# Altium footprint library con-molex-spox.PCBLIB: 1 footprints
Each footprint in its own frame and in the unit in brackets; x right, y up, seen from the top. Pads: shape width x height; smd on the part's side, far side on the other; paste and mask are expansions set on the pad; w line width, h text height; cw(c..) or ccw(c..) is an arc to the next point about the centre after c.
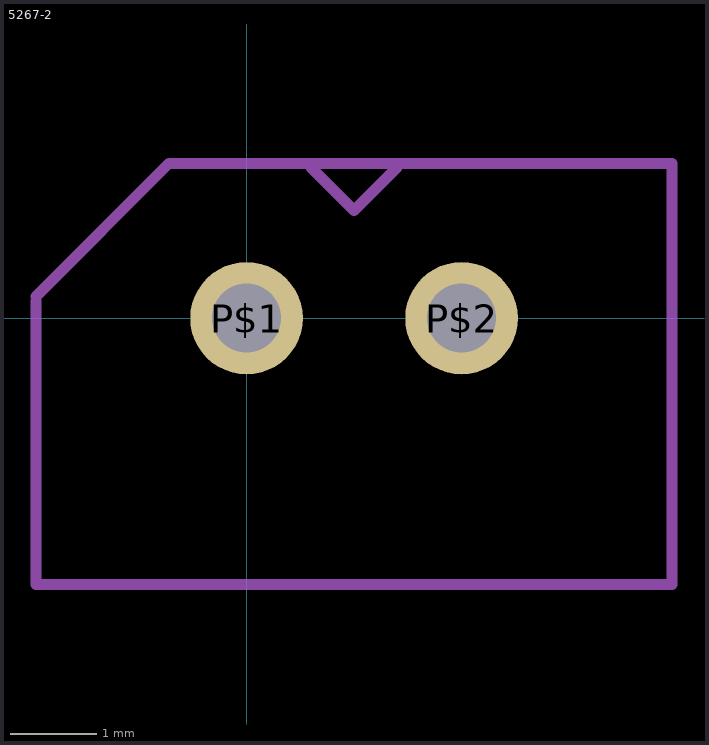
[diagram p0: the footprint, top view; thin cyan lines are the x and y axes]

## 5267-2 [mil]
pads (2):
  round 51.5 hole 31.5: P$1(0,0) P$2(98.43,0)
tPlace:
  lines w5: -96.46,7.87 -96.46,-122.05 194.88,-122.05 194.88,70.87 -35.43,70.87 -96.46,9.84 ; 29.53,68.9 49.21,49.21 68.9,68.9